# EAGLE library part BM62 (library BW-Active)
Bluetooth audio module
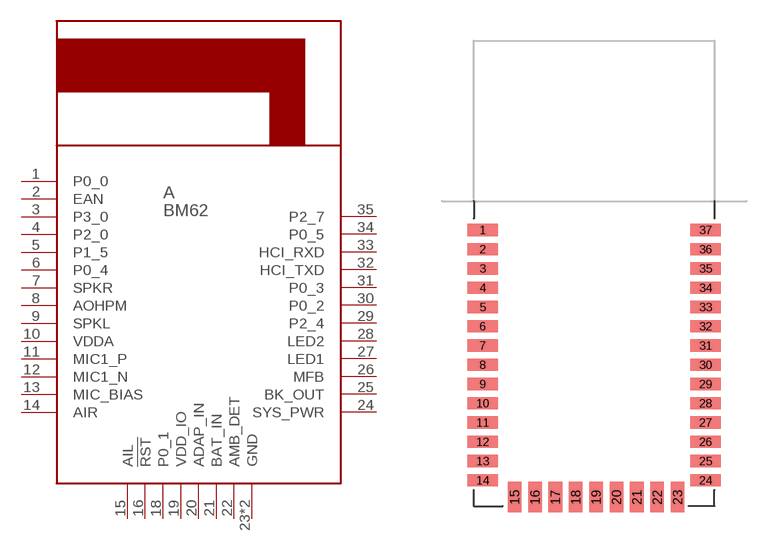
[diagram p3: symbol with the pads of BM62; footprint BM62]

Designator prefix A

## BM62  [BM62]
1  P0_0
2  EAN
3  P3_0
4  P2_0
5  P1_5
6  P0_4
7  SPKR
8  AOHPM
9  SPKL
10  VDDA
11  MIC1_P
12  MIC1_N
13  MIC_BIAS
14  AIR
15  AIL
16  !RST
18  P0_1
19  VDD_IO
20  ADAP_IN
21  BAT_IN
22  AMB_DET
23  GND
24  SYS_PWR
25  BK_OUT
26  MFB
27  LED1
28  LED2
29  P2_4
30  P0_2
31  P0_3
32  HCI_TXD
33  HCI_RXD
34  P0_5
35  P2_7
37  GND

## Footprint BM62 (pad centres in mm)
smd 1.9 x 0.76: 1 -6.95,-1.8; 2 -6.95,-3; 3 -6.95,-4.2; 4 -6.95,-5.4; 5 -6.95,-6.6; 6 -6.95,-7.8; 7 -6.95,-9; 8 -6.95,-10.2; 9 -6.95,-11.4; 10 -6.95,-12.6; 11 -6.95,-13.8; 12 -6.95,-15; 13 -6.95,-16.2; 14 -6.95,-17.4; 24 6.95,-17.4; 25 6.95,-16.2; 26 6.95,-15; 27 6.95,-13.8; 28 6.95,-12.6; 29 6.95,-11.4; 30 6.95,-10.2; 31 6.95,-9; 32 6.95,-7.8; 33 6.95,-6.6; 34 6.95,-5.4; 35 6.95,-4.2; 36 6.95,-3; 37 6.95,-1.8
smd 0.85 x 1.9: 15 -4.96,-18.45; 16 -3.69,-18.45; 17 -2.42,-18.45; 18 -1.15,-18.45; 19 0.12,-18.45; 20 1.39,-18.45; 21 2.66,-18.45; 22 3.93,-18.45; 23 5.2,-18.45